# EAGLE library part ACS712 (library Skoba)
Hall-effect-based isolated linear current sensor
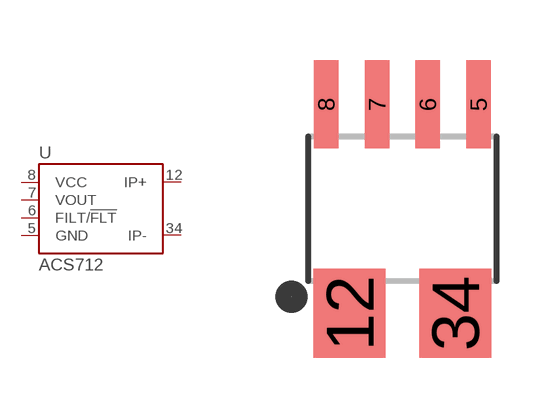
[diagram p22: symbol with the pads of SO08-JOINED; footprint SO08-JOINED]

Designator prefix U

## ACS712SO08  [SO08-JOINED]
5  GND
6  FILT/!FLT
7  VOUT
8  VCC
12  IP+
34  IP-

## Footprint SO08-JOINED (pad centres in mm)
smd 0.61 x 2.21: 5 1.905,2.616; 6 0.635,2.616; 7 -0.635,2.616; 8 -1.905,2.616
smd 1.8 x 2.22: 12 -1.32,-2.61; 34 1.32,-2.61